# Altium footprint library CH340R.PcbLib: 1 footprints
Each footprint in its own frame and in the unit in brackets; x right, y up, seen from the top. Pads: shape width x height; smd on the part's side, far side on the other; paste and mask are expansions set on the pad; w line width, h text height; cw(c..) or ccw(c..) is an arc to the next point about the centre after c.
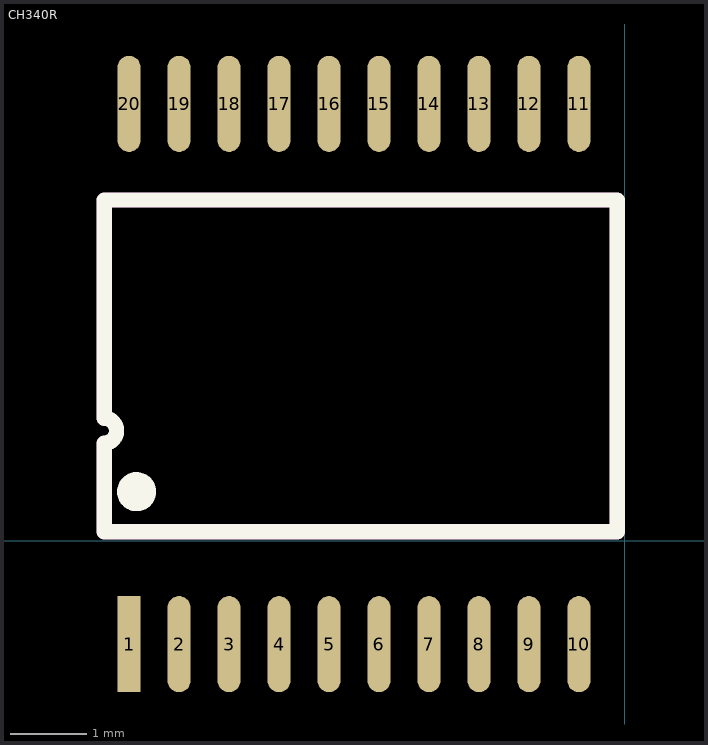
[diagram p0: the footprint, top view; thin cyan lines are the x and y axes]

## CH340R [mm]
pads (20):
  rect 0.3x1.25 smd: 1(-6.448,-1.347)
  oval 0.3x1.25 smd: 2(-5.798,-1.347) 3(-5.148,-1.347) 4(-4.498,-1.347) 5(-3.848,-1.347) 6(-3.198,-1.347) 7(-2.548,-1.347) 8(-1.898,-1.347) 9(-1.248,-1.347) 10(-0.598,-1.347) 11(-0.598,5.678) 12(-1.248,5.678) 13(-1.898,5.678) 14(-2.548,5.678) 15(-3.198,5.678) 16(-3.848,5.678) 17(-4.498,5.678) 18(-5.148,5.678) 19(-5.798,5.678) 20(-6.448,5.678)
Top Overlay:
  circle w0.254: c-6.35,0.635 r0.127
  lines w0.2: -6.773,1.265 ccw(c-6.773,1.428) -6.773,1.59
Top Overlay keep-out:
  lines w0.2: -6.773,1.265 -6.773,0.113 -0.098,0.113 -0.098,4.428 -6.773,4.428 -6.773,1.59